# Altium footprint library 400150.PcbLib: 52 footprints (part 4 of 4)
Each footprint in its own frame and in the unit in brackets; x right, y up, seen from the top. Pads: shape width x height; smd on the part's side, far side on the other; paste and mask are expansions set on the pad; w line width, h text height; cw(c..) or ccw(c..) is an arc to the next point about the centre after c.
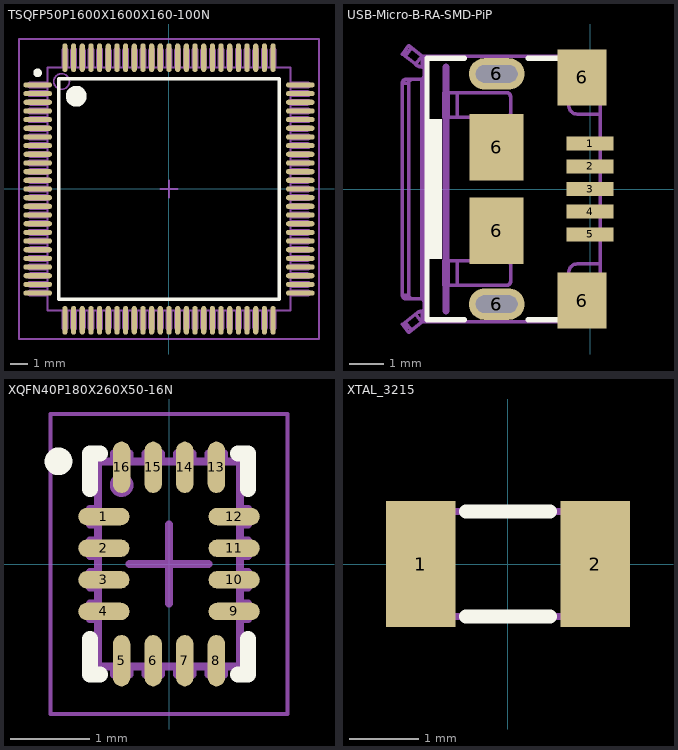
[diagram p3: the footprints below, top view; thin cyan lines are the x and y axes]

## TSQFP50P1600X1600X160-100N [mm]
pads (100):
  oval 1.65x0.3 smd mask+0.05: 1(-7.575,6) 2(-7.575,5.5) 3(-7.575,5) 4(-7.575,4.5) 5(-7.575,4) 6(-7.575,3.5) 7(-7.575,3) 8(-7.575,2.5) 9(-7.575,2) 10(-7.575,1.5) 11(-7.575,1) 12(-7.575,0.5) 13(-7.575,0) 14(-7.575,-0.5) 15(-7.575,-1) 16(-7.575,-1.5) 17(-7.575,-2) 18(-7.575,-2.5) 19(-7.575,-3) 20(-7.575,-3.5) 21(-7.575,-4) 22(-7.575,-4.5) 23(-7.575,-5) 24(-7.575,-5.5) 25(-7.575,-6) 51(7.575,-6) 52(7.575,-5.5) 53(7.575,-5) 54(7.575,-4.5) 55(7.575,-4) 56(7.575,-3.5) 57(7.575,-3) 58(7.575,-2.5) 59(7.575,-2) 60(7.575,-1.5) 61(7.575,-1) 62(7.575,-0.5) 63(7.575,0) 64(7.575,0.5) 65(7.575,1) 66(7.575,1.5) 67(7.575,2) 68(7.575,2.5) 69(7.575,3) 70(7.575,3.5) 71(7.575,4) 72(7.575,4.5) 73(7.575,5) 74(7.575,5.5) 75(7.575,6)
  oval 0.3x1.65 smd mask+0.05: 26(-6,-7.575) 27(-5.5,-7.575) 28(-5,-7.575) 29(-4.5,-7.575) 30(-4,-7.575) 31(-3.5,-7.575) 32(-3,-7.575) 33(-2.5,-7.575) 34(-2,-7.575) 35(-1.5,-7.575) 36(-1,-7.575) 37(-0.5,-7.575) 38(0,-7.575) 39(0.5,-7.575) 40(1,-7.575) 41(1.5,-7.575) 42(2,-7.575) 43(2.5,-7.575) 44(3,-7.575) 45(3.5,-7.575) 46(4,-7.575) 47(4.5,-7.575) 48(5,-7.575) 49(5.5,-7.575) 50(6,-7.575) 76(6,7.575) 77(5.5,7.575) 78(5,7.575) 79(4.5,7.575) 80(4,7.575) 81(3.5,7.575) 82(3,7.575) 83(2.5,7.575) 84(2,7.575) 85(1.5,7.575) 86(1,7.575) 87(0.5,7.575) 88(0,7.575) 89(-0.5,7.575) 90(-1,7.575) 91(-1.5,7.575) 92(-2,7.575) 93(-2.5,7.575) 94(-3,7.575) 95(-3.5,7.575) 96(-4,7.575) 97(-4.5,7.575) 98(-5,7.575) 99(-5.5,7.575) 100(-6,7.575)
Top Overlay:
  circle w0.25: c-7.575,6.7 r0.125
  circle w0.6: c-5.35,5.35 r0.3
  lines w0.2: -6.35,-6.35 -6.35,6.35 6.35,6.35 6.35,-6.35 -6.35,-6.35
Mechanical 7:
  drawing of 405 lines, arcs and shapes, not listed
Mechanical 15:
  lines w0.1: -0.5,0 0.5,0 ; 0,-0.5 0,0.5 ; -8.65,-8.65 -8.65,8.65 8.65,8.65 8.65,-8.65 -8.65,-8.65
3D body "User Library-LQFP-100 (2).step": height 1.6, standoff 0, extent -8.001,-8 7.999,8

## USB-Micro-B-RA-SMD-PiP [mm]
pads (13):
  rect 1.35x0.4 smd: 1(0,1.3) 2(0,0.65) 3(0,0) 4(0,-0.65) 5(0,-1.3)
  oval 1.6x0.9 hole 0.5 slot 1.2 at 0 deg: 6(-2.675,-3.3) 6(-2.675,3.3)
  oval 2x1.5 on Top Paste: 6(-2.675,-3.3) 6(-2.675,3.3)
  rect 1.55x1.9 smd: 6(-2.675,-1.2) 6(-2.675,1.2)
  rect 1.4x1.6 smd: 6(-0.225,-3.2) 6(-0.225,3.2)
Top Overlay:
  rectangle: -4.75,-2 -4.25,2
  lines w0.152: -3.6,-3.75 -4.675,-3.75 -4.675,3.75 -3.6,3.75 ; -1.775,-3.75 0.25,-3.75 0.25,-3.275 ; -1.775,3.75 0.25,3.75 0.25,3.275
Mechanical 7:
  drawing of 2738 lines, arcs and shapes, not listed
  text ".Designator" at -4.125,-0.127 h0.38
Mechanical 15:
  lines w0.2: -4.125,-3.5 -4.125,3.5
3D body "User Library-MicroUSB-B_Molex_105017-0001.step": height 2.72, standoff -0.59, extent -5.28,-4.1 0.15,4.1

## XQFN40P180X260X50-16N [mm]
pads (16):
  oval 0.65x0.22 smd paste-0.02 mask+0.04: 1(-0.825,0.6) 2(-0.825,0.2) 3(-0.825,-0.2) 4(-0.825,-0.6) 9(0.825,-0.6) 10(0.825,-0.2) 11(0.825,0.2) 12(0.825,0.6)
  oval 0.22x0.65 smd paste-0.02 mask+0.04: 5(-0.6,-1.225) 6(-0.2,-1.225) 7(0.2,-1.225) 8(0.6,-1.225) 13(0.6,1.225) 14(0.2,1.225) 15(-0.2,1.225) 16(-0.6,1.225)
Top Overlay:
  circle w0.25: c-1.4,1.3 r0.05
  lines w0.2: -1,-0.95 -1,-1.4 -0.875,-1.4 ; -1,0.95 -1,1.4 -0.875,1.4 ; 0.875,-1.4 1,-1.4 1,-0.95 ; 0.875,1.4 1,1.4 1,0.95
Mechanical 7:
  circle w0.1: c-0.6,1 r0.1
  lines w0.1: -0.9,-0.7 -1,-0.7 -1,-0.5 -0.9,-0.5 ; -0.9,-0.3 -1,-0.3 -1,-0.1 -0.9,-0.1 ; -0.9,0.1 -1,0.1 -1,0.3 -0.9,0.3 ; -0.9,0.5 -1,0.5 -1,0.7 -0.9,0.7 ; -0.7,-1.3 -0.7,-1.4 -0.5,-1.4 -0.5,-1.3 ; -0.7,1.3 -0.7,1.4 -0.5,1.4 -0.5,1.3 ; -0.3,-1.3 -0.3,-1.4 -0.1,-1.4 -0.1,-1.3 ; -0.3,1.3 -0.3,1.4 -0.1,1.4 -0.1,1.3 ; 0.1,-1.3 0.1,-1.4 0.3,-1.4 0.3,-1.3 ; 0.1,1.3 0.1,1.4 0.3,1.4 0.3,1.3 ; 0.5,-1.3 0.5,-1.4 0.7,-1.4 0.7,-1.3 ; 0.5,1.3 0.5,1.4 0.7,1.4 0.7,1.3 ; 0.9,-0.7 1,-0.7 1,-0.5 0.9,-0.5 ; 0.9,-0.3 1,-0.3 1,-0.1 0.9,-0.1 ; 0.9,0.1 1,0.1 1,0.3 0.9,0.3 ; 0.9,0.5 1,0.5 1,0.7 0.9,0.7 ; -0.9,-1.3 0.9,-1.3 0.9,1.3 -0.9,1.3 -0.9,-1.3
  text ".Designator" at -0.45,-0.2 h0.38
Mechanical 15:
  lines w0.05: -1.5,-1.9 1.5,-1.9 1.5,1.9 -1.5,1.9 -1.5,-1.9
  lines w0.1: -0.5,0 0.5,0 ; 0,-0.5 0,0.5
3D body: height 0.55, standoff 0.4, extent -0.9,-0.35 0.9,0.35
3D body "User Library-XQFN-16-1.step": height 0.55, standoff 0, extent -0.91,-1.31 0.91,1.31

## XTAL_3215 [mm]
pads (2):
  rect 1x1.8 smd: 1(-1.25,0) 2(1.25,0)
Top Overlay:
  lines w0.2: -0.6,-0.75 0.6,-0.75 ; -0.6,0.75 0.6,0.75
Mechanical 7:
  lines w0.1: -1.6,-0.75 1.6,-0.75 1.6,0.75 -1.6,0.75 -1.6,-0.75
  text ".Designator" at 0.015,-0.316 h0.38
Mechanical 15:
  lines w0.1: -1.6,-0.55 cw(c-1.6,-0.75) -1.4,-0.75 1.4,-0.75 cw(c1.6,-0.75) 1.6,-0.55 1.6,0.55 cw(c1.6,0.75) 1.4,0.75 -1.4,0.75 cw(c-1.6,0.75) -1.6,0.55 -1.6,-0.55
3D body "User Library-Siward_SX3215.step": height 0.81, standoff 0, extent -1.6,-0.75 1.6,0.75
3D body: height 0.81, standoff 0.15, extent -1.2,-0.6 1.2,0.6